# EAGLE library part 691244700006 (library Eagle_WR-TBL Rising Cage Clamp (rev20a))
WR-TBL Serie 2447 - 5.00 mm Vertical Entry Modular w. Rising Cage Clamp KIND PROPERTIES Pitch 5 mm MATERIAL PROPERTIES Insulator Material PA6/66 Insulator Flammability Rating UL94 V-0 Insulator Color Green Contact Material Copper Alloy Contact Plating Nickel over Tin Terminal Screw Material Steel Terminal Screw Plating Zinc Wire Guard Material Copper Alloy GENERAL INFORMATION Operating Temperature -30 up to +120 °C Compliance Lead free / RoHS;​ ROHS & Reach ELECTRICAL PROPERTIES IR UL 16 A IR VDE 24 A Working Voltage [UL] 300 V (AC) Working Voltage [VDE] 450 V (AC) Withstanding Voltage [UL] 1600 V (AC) Withstanding Voltage [cULus] 1600 V (AC) Withstanding Voltage [VDE] 2500 V (AC) Contact Resistance [UL] 20 mΩ Contact Resistance [cULus] 20 mΩ Contact Resistance [VDE] 20 mΩ MECHANICAL PROPERTIES Wire Strip Length 6 (mm) Screw M3 CERTIFICATION cULus Approval E315414 UL Approval E150931 CAT. N°: MRT15 (4); E150931 CAT: N°: MRT15 (4) VDE Approval 40023402 VDE Approval 40015450 TYPE: MRT15 PACKAGING PROPERTIES Packaging Box <https://www.we-online.com/catalog/media/o60845v209%20Family_TBL_5_00_2447_VERTICAL_CABLE_ENTRY_W_RISING_CLAMP_6912447000XX.jpg> Details see: https://www.we-online.com/catalog/en/TBL_5_00_2447_VERTICAL_CABLE_ENTRY_W_RISING_CLAMP_6912447000XX/ Updated by Ella Wu 2019-11-25 2019(C) Wurth Elektronik
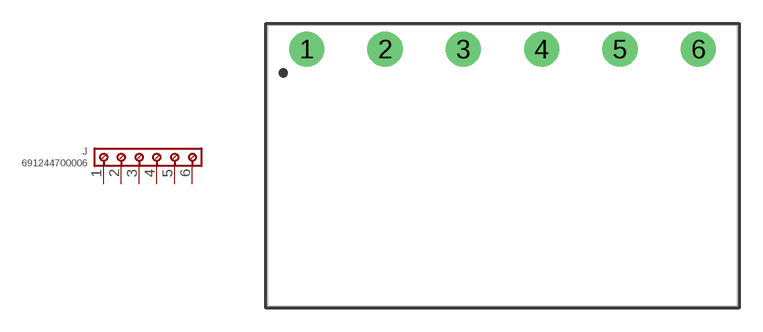
[diagram p32: symbol with the pads of 691244700006; footprint 691244700006]

Designator prefix J

## 691244700006 (DATASHEET-URL: https://www.we-online.com/catalog/datasheet/691244700006.pdf; IR-UL: 16A; IR-VDE: 24A; MOUNT: THT; PART-NUMBER: 691244700006; PINS: 6; PITCH: 5mm; TYPE: Vertical; WIRE: 30 to 12 (AWG) 0.0509 to 3.31 (mm²); WORKING-VOLTAGE-UL: 300V (AC); WORKING-VOLTAGE-VDE: 450V (AC))  [691244700006]
1  1  pas
2  2  pas
3  3  pas
4  4  pas
5  5  pas
6  6  pas

## Footprint 691244700006 (pad centres in mm)
WR-TBL Serie 2447 - 5.00 mm Vertical Entry Modular w. Rising Cage Clamp Max Height =11.2mm , Pitch 5mm , 6 Pins
drill 1.5: 1 -12.5,0; 2 -7.5,0; 3 -2.5,0; 4 2.5,0; 5 7.5,0; 6 12.5,0